# Altium footprint library POWERMITE_CASE_457.PcbLib: 1 footprints
Each footprint in its own frame and in the unit in brackets; x right, y up, seen from the top. Pads: shape width x height; smd on the part's side, far side on the other; paste and mask are expansions set on the pad; w line width, h text height; cw(c..) or ccw(c..) is an arc to the next point about the centre after c.
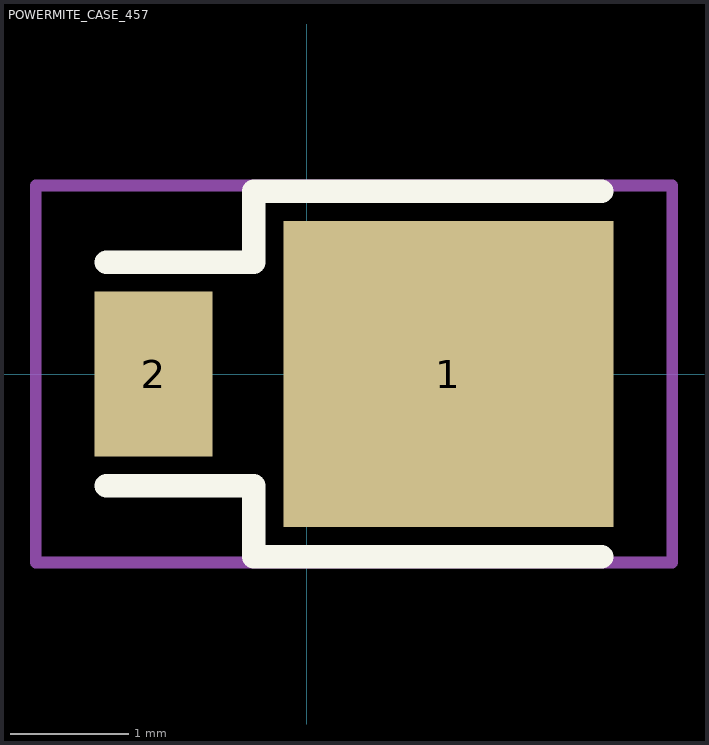
[diagram p0: the footprint, top view; thin cyan lines are the x and y axes]

## POWERMITE_CASE_457 [mm]
pads (2):
  rect 2.8x2.6 smd: 1(1.2,0)
  rect 1x1.4 smd: 2(-1.3,0)
Top Overlay:
  lines w0.2: -1.7,-0.95 -0.45,-0.95 -0.45,-1.55 2.5,-1.55 ; -1.7,0.95 -0.45,0.95 -0.45,1.55 2.5,1.55
Top Courtyard:
  lines w0.1: -2.3,-1.6 3.1,-1.6 3.1,1.6 -2.3,1.6 -2.3,-1.6
3D body "MBRM140T1G.STEP": height 1.15, standoff 0, extent -1.5,-0.95 2.25,0.95